# EAGLE library part EPM240T100C5N (library EPM240T100C5N)
CPLD Max II EPM240T100C5N, TQFP100 EPM240T100C5N, CPLD MAX II Flash 192 Cells, 80 I/O, 24 Labs, ISP, 2.375 3.6 V 100-Pin TQFP Source: Datasheet <https://datasheet.datasheetarchive.com/originals/distributors/Datasheets_SAMA/0734504d520507bdccc47e3bcdd06d1f.pdf>
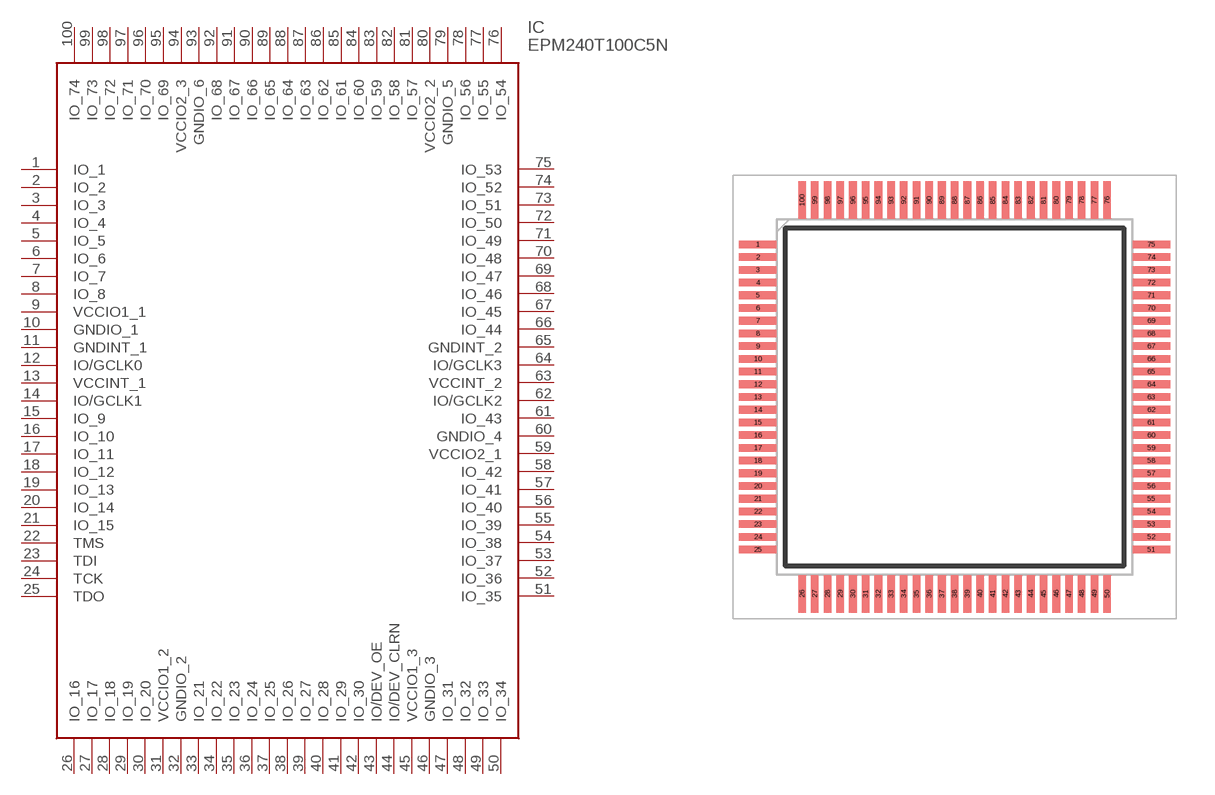
[diagram p0: symbol with the pads of QFP50P1600X1600X120-100N; footprint QFP50P1600X1600X120-100N]

Designator prefix IC

## EPM240T100C5N (Description: CPLD Max II EPM240T100C5N, TQFP100 EPM240T100C5N, CPLD MAX II Flash 192 Cells, 80 I/O, 24 Labs, ISP, 2.375 3.6 V 100-Pin TQFP; Height: 1.2mm; Manufacturer_Name: Intel; Manufacturer_Part_Number: EPM240T100C5N; Mouser_Part_Number: 989-EPM240T100C5N; Mouser_Price-Stock: https://www.mouser.co.uk/ProductDetail/Intel-Altera/EPM240T100C5N?qs=jblrfmjbeiHmgaW5DQXOiw%3D%3D)  [QFP50P1600X1600X120-100N]
1  IO_1
2  IO_2
3  IO_3
4  IO_4
5  IO_5
6  IO_6
7  IO_7
8  IO_8
9  VCCIO1_1
10  GNDIO_1
11  GNDINT_1
12  IO/GCLK0
13  VCCINT_1
14  IO/GCLK1
15  IO_9
16  IO_10
17  IO_11
18  IO_12
19  IO_13
20  IO_14
21  IO_15
22  TMS
23  TDI
24  TCK
25  TDO
26  IO_16
27  IO_17
28  IO_18
29  IO_19
30  IO_20
31  VCCIO1_2
32  GNDIO_2
33  IO_21
34  IO_22
35  IO_23
36  IO_24
37  IO_25
38  IO_26
39  IO_27
40  IO_28
41  IO_29
42  IO_30
43  IO/DEV_OE
44  IO/DEV_CLRN
45  VCCIO1_3
46  GNDIO_3
47  IO_31
48  IO_32
49  IO_33
50  IO_34
51  IO_35
52  IO_36
53  IO_37
54  IO_38
55  IO_39
56  IO_40
57  IO_41
58  IO_42
59  VCCIO2_1
60  GNDIO_4
61  IO_43
62  IO/GCLK2
63  VCCINT_2
64  IO/GCLK3
65  GNDINT_2
66  IO_44
67  IO_45
68  IO_46
69  IO_47
70  IO_48
71  IO_49
72  IO_50
73  IO_51
74  IO_52
75  IO_53
76  IO_54
77  IO_55
78  IO_56
79  GNDIO_5
80  VCCIO2_2
81  IO_57
82  IO_58
83  IO_59
84  IO_60
85  IO_61
86  IO_62
87  IO_63
88  IO_64
89  IO_65
90  IO_66
91  IO_67
92  IO_68
93  GNDIO_6
94  VCCIO2_3
95  IO_69
96  IO_70
97  IO_71
98  IO_72
99  IO_73
100  IO_74

## Footprint QFP50P1600X1600X120-100N (pad centres in mm)
100-Pin Plastic Thin Quad Flat Pack (TQFP)
smd 1.475 x 0.3: 1 -7.738,6; 2 -7.738,5.5; 3 -7.738,5; 4 -7.738,4.5; 5 -7.738,4; 6 -7.738,3.5; 7 -7.738,3; 8 -7.738,2.5; 9 -7.738,2; 10 -7.738,1.5; 11 -7.738,1; 12 -7.738,0.5; 13 -7.738,0; 14 -7.738,-0.5; 15 -7.738,-1; 16 -7.738,-1.5; 17 -7.738,-2; 18 -7.738,-2.5; 19 -7.738,-3; 20 -7.738,-3.5; 21 -7.738,-4; 22 -7.738,-4.5; 23 -7.738,-5; 24 -7.738,-5.5; 25 -7.738,-6; 51 7.738,-6; 52 7.738,-5.5; 53 7.738,-5; 54 7.738,-4.5; 55 7.738,-4; 56 7.738,-3.5; 57 7.738,-3; 58 7.738,-2.5; 59 7.738,-2; 60 7.738,-1.5; 61 7.738,-1; 62 7.738,-0.5; 63 7.738,0; 64 7.738,0.5; 65 7.738,1; 66 7.738,1.5; 67 7.738,2; 68 7.738,2.5; 69 7.738,3; 70 7.738,3.5; 71 7.738,4; 72 7.738,4.5; 73 7.738,5; 74 7.738,5.5; 75 7.738,6
smd 0.3 x 1.475: 26 -6,-7.738; 27 -5.5,-7.738; 28 -5,-7.738; 29 -4.5,-7.738; 30 -4,-7.738; 31 -3.5,-7.738; 32 -3,-7.738; 33 -2.5,-7.738; 34 -2,-7.738; 35 -1.5,-7.738; 36 -1,-7.738; 37 -0.5,-7.738; 38 0,-7.738; 39 0.5,-7.738; 40 1,-7.738; 41 1.5,-7.738; 42 2,-7.738; 43 2.5,-7.738; 44 3,-7.738; 45 3.5,-7.738; 46 4,-7.738; 47 4.5,-7.738; 48 5,-7.738; 49 5.5,-7.738; 50 6,-7.738; 76 6,7.738; 77 5.5,7.738; 78 5,7.738; 79 4.5,7.738; 80 4,7.738; 81 3.5,7.738; 82 3,7.738; 83 2.5,7.738; 84 2,7.738; 85 1.5,7.738; 86 1,7.738; 87 0.5,7.738; 88 0,7.738; 89 -0.5,7.738; 90 -1,7.738; 91 -1.5,7.738; 92 -2,7.738; 93 -2.5,7.738; 94 -3,7.738; 95 -3.5,7.738; 96 -4,7.738; 97 -4.5,7.738; 98 -5,7.738; 99 -5.5,7.738; 100 -6,7.738